# Altium schematic symbol library SchLib.SchLib: 13 symbols
Pins are listed as number, name and electrical type; pins without a type are passive.

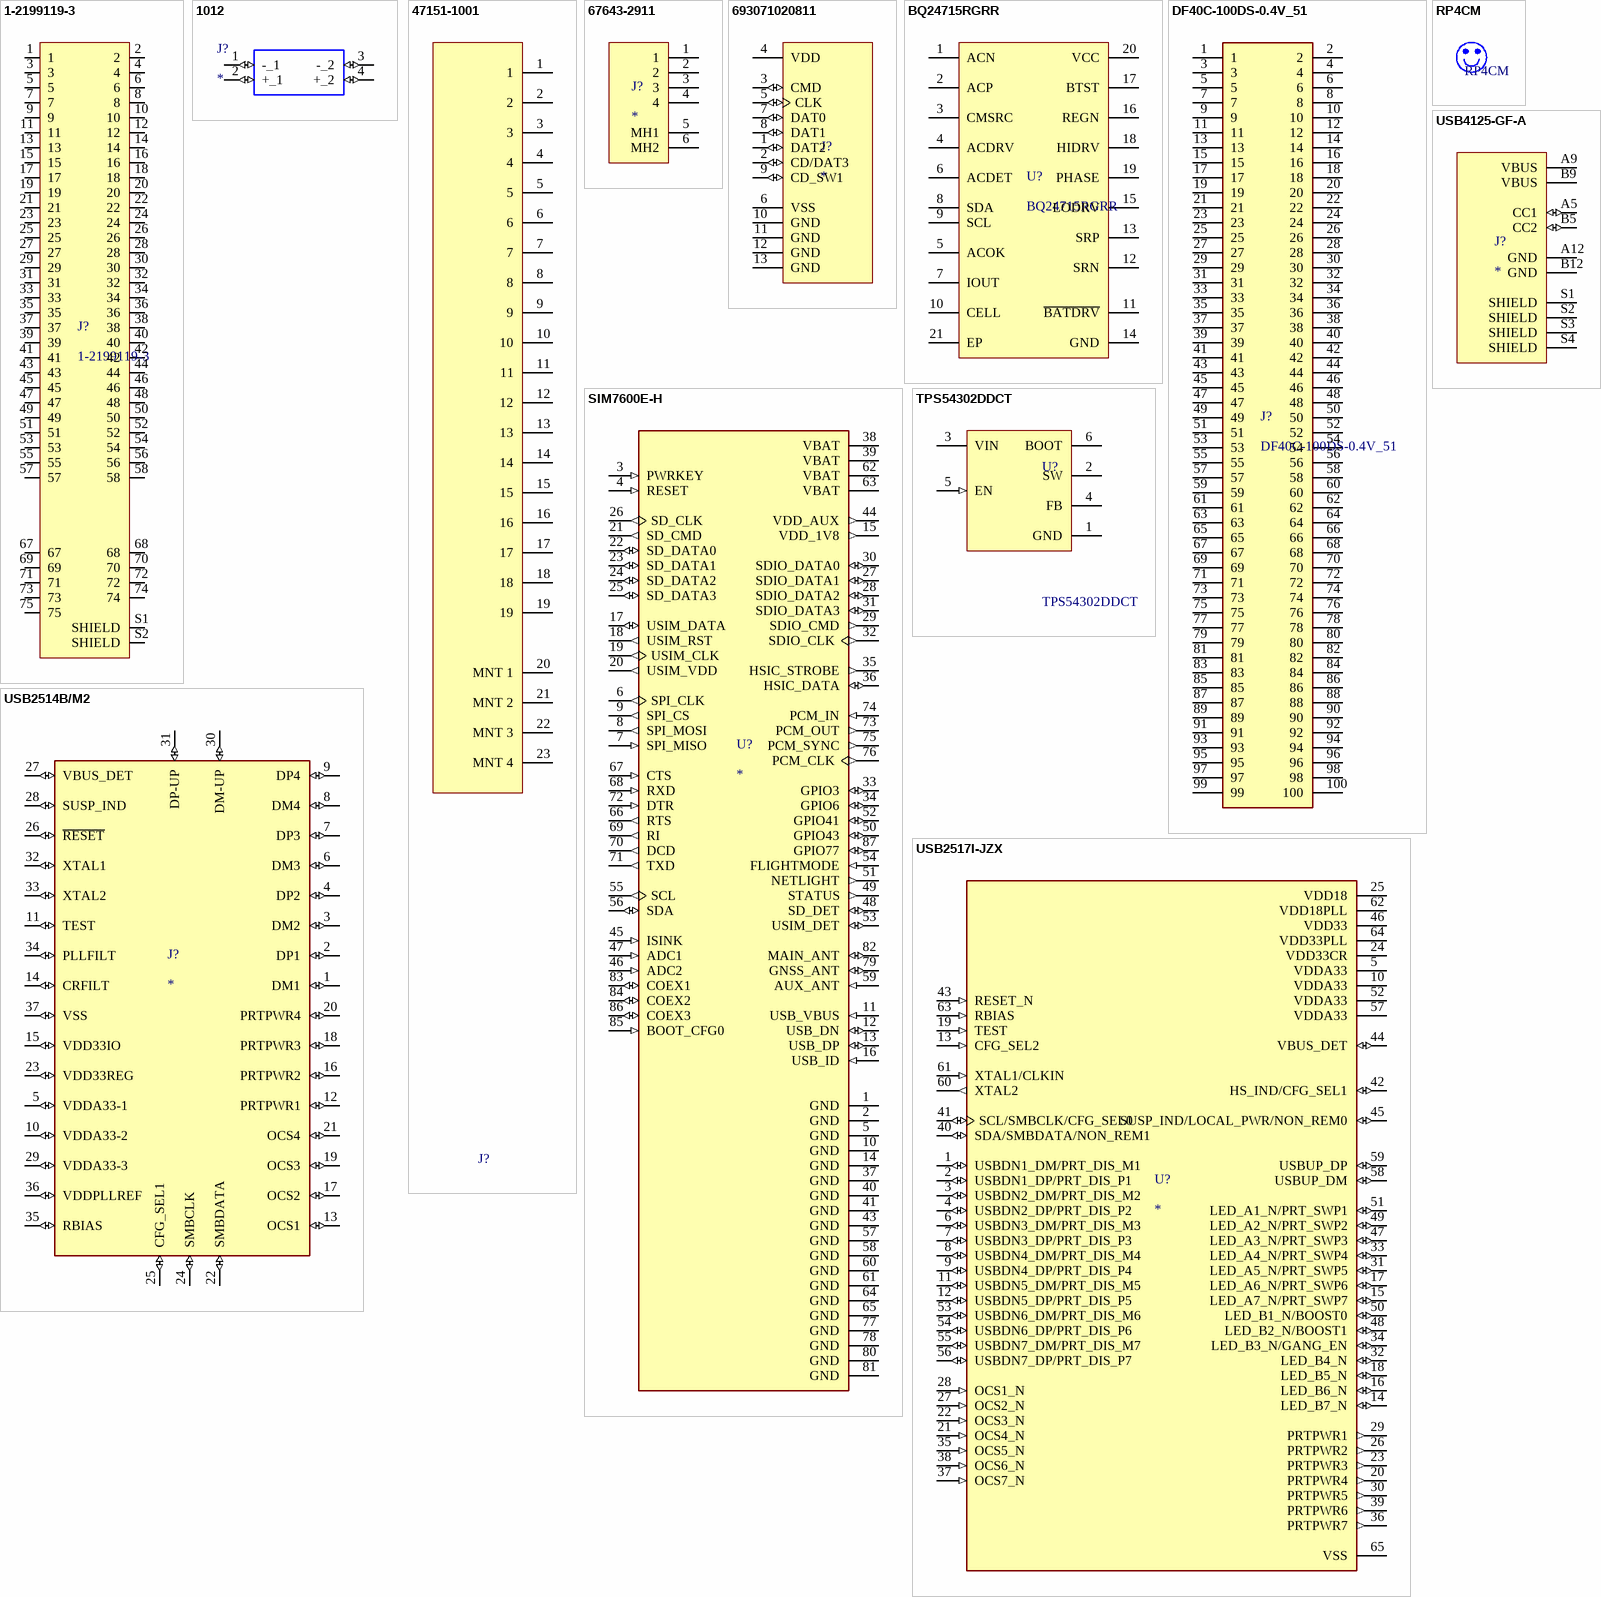
[diagram p0: symbols 1-2199119-3 to USB4125-GF-A]

## 1-2199119-3
designator J?
m.2 0.5pitch 3.2h Key m Goldflash; MF: {'manufacturer': u'TE Connectivity'}; Value: *; Price: None; MP: 1-2199119-3; Availability: Unavailable; Package: None
footprint 1-2199119-3
pins: 1, 2, 3, 4, 5, 6, 7, 8, 9, 10, 11, 12, 13, 14, 15, 16, 17, 18, 19, 20, 21, 22, 23, 24, 25, 26, 27, 28, 29, 30, 31, 32, 33, 34, 35, 36, 37, 38, 39, 40, 41, 42, 43, 44, 45, 46, 47, 48, 49, 50, 51, 52, 53, 54, 55, 56, 57, 58, 67, 68, 69, 70, 71, 72, 73, 74, 75, S1 SHIELD, S2 SHIELD

## 1012
designator J?
<b>Cylindrical Battery Contacts, Clips, Holders & Springs SM BATT HOLDER (2)AA</b><p> Source: <a href="https://www.mouser.com/datasheet/2/215/012-745413.pdf"> Datasheet </a>; MF: {'manufacturer': u'Adafruit Industries'}; MP: 1012; Price: None; Availability: Unavailable; Value: *; Package: None
footprint 1012
pins: 1 -_1 (io), 2 +_1 (io), 3 -_2 (io), 4 +_2 (io)

## 47151-1001
designator J?  (value not drawn)
footprint 47151-1001
pins: 1, 2, 3, 4, 5, 6, 7, 8, 9, 10, 11, 12, 13, 14, 15, 16, 17, 18, 19, 20 MNT 1, 21 MNT 2, 22 MNT 3, 23 MNT 4

## 67643-2911
designator J?
Connector; Manufacturer_Name: Molex; Manufacturer_Part_Number: 67643-2911; Datasheet Link: http://www.molex.com/pdm_docs/sd/676432911_sd.pdf; Mouser Part Number: 538-67643-2911; Mouser Price/Stock: https://www.mouser.co.uk/ProductDetail/Molex/67643-2911?qs=x6EjVpvqMVMv%252BeZ0QcyMmw%3D%3D
footprint 67643-2911
pins: 1, 2, 3, 4, 5 MH1, 6 MH2

## 693071020811
designator J?
9 (8 + 1) Position Card Connector Secure Digital - microSD Surface Mount, Right Angle Gold; MF: {'manufacturer': u'W\xfcrth Elektronik'}; MP: 693071020811; Availability: Unavailable; Package: None; Value: *; Price: None
footprint WURTH_693071020811
pins: 1 DAT2 (io), 2 CD/DAT3 (io), 3 CMD (io), 4 VDD (power), 5 CLK (io), 6 VSS (power), 7 DAT0 (io), 8 DAT1 (io), 9 CD_SW1 (io), 10 GND (power), 11 GND (power), 12 GND (power), 13 GND (power)

## BQ24715RGRR
designator U?
Integrated Circuit; Manufacturer_Name: Texas Instruments; Datasheet Link: http://www.ti.com/lit/gpn/bq24715; Height: 1mm; Manufacturer_Part_Number: BQ24715RGRR; Mouser Part Number: 595-BQ24715RGRR; Mouser Price/Stock: https://www.mouser.co.uk/ProductDetail/Texas-Instruments/BQ24715RGRR?qs=biyDIajrTn47XBzYmaZUww%3D%3D; Arrow Part Number: BQ24715RGRR; Arrow Price/Stock: https://www.arrow.com/en/products/bq24715rgrr/texas-instruments
footprint QFN50P350X350X100-21N-D
pins: 1 ACN, 2 ACP, 3 CMSRC, 4 ACDRV, 5 ACOK, 6 ACDET, 7 IOUT, 8 SDA, 9 SCL, 10 CELL, 11 ~{BATDRV}, 12 SRN, 13 SRP, 14 GND, 15 LODRV, 16 REGN, 17 BTST, 18 HIDRV, 19 PHASE, 20 VCC, 21 EP

## DF40C-100DS-0.4V_51
designator J?
Connector; Manufacturer_Name: Hirose; Manufacturer_Part_Number: DF40C-100DS-0.4V(51); Datasheet Link: https://www.hirose.com/product/en/download_file/key_name/DF40C-100DS-0.4V%2851%29/category/Drawing%20(2D)/doc_file_id/46856/?file_category_id=6&item_id=06844033451&is_series=; Height: 1.65mm; Mouser Part Number: 798-DF40C100DS0.4V51; Mouser Price/Stock: https://www.mouser.co.uk/ProductDetail/Hirose-Connector/DF40C-100DS-04V51?qs=eDUdFcBPps2MEwbnuPvZzQ%3D%3D; Arrow Part Number: DF40C-100DS-0.4V(51); Arrow Price/Stock: https://www.arrow.com/en/products/df40c-100ds-0.4v-51/hirose-electric
footprint DF40C100DS04V51
pins: 1, 2, 3, 4, 5, 6, 7, 8, 9, 10, 11, 12, 13, 14, 15, 16, 17, 18, 19, 20, 21, 22, 23, 24, 25, 26, 27, 28, 29, 30, 31, 32, 33, 34, 35, 36, 37, 38, 39, 40, 41, 42, 43, 44, 45, 46, 47, 48, 49, 50, 51, 52, 53, 54, 55, 56, 57, 58, 59, 60, 61, 62, 63, 64, 65, 66, 67, 68, 69, 70, 71, 72, 73, 74, 75, 76, 77, 78, 79, 80, 81, 82, 83, 84, 85, 86, 87, 88, 89, 90, 91, 92, 93, 94, 95, 96, 97, 98, 99, 100

## RP4CM
designator M?  (mechanical)
Raspberry Pi  Computed Module 4
footprint RP4CM0

## SIM7600E-H
designator U?
Multi-Band LTE-TDD/LTE-FDD/HSPA+ and GSM/GPRS/EDGE module; MF: {'manufacturer': u'Simcom'}; MP: SIM7600E-H; Availability: Unavailable; Package: None; Value: *; Price: None
footprint IC_SIM7600E-H
pins: 1 GND (power), 2 GND (power), 3 PWRKEY (in), 4 RESET (in), 5 GND (power), 6 SPI_CLK (out), 7 SPI_MISO (in), 8 SPI_MOSI (out), 9 SPI_CS (out), 10 GND (power), 11 USB_VBUS (in), 12 USB_DN (io), 13 USB_DP (io), 14 GND (power), 15 VDD_1V8 (out), 16 USB_ID (in), 17 USIM_DATA (io), 18 USIM_RST (out), 19 USIM_CLK (out), 20 USIM_VDD (out), 21 SD_CMD (out), 22 SD_DATA0 (io), 23 SD_DATA1 (io), 24 SD_DATA2 (io), 25 SD_DATA3 (io), 26 SD_CLK (out), 27 SDIO_DATA1 (io), 28 SDIO_DATA2 (io), 29 SDIO_CMD (out), 30 SDIO_DATA0 (io), 31 SDIO_DATA3 (io), 32 SDIO_CLK (out), 33 GPIO3 (io), 34 GPIO6 (io), 35 HSIC_STROBE (out), 36 HSIC_DATA (io), 37 GND (power), 38 VBAT (power), 39 VBAT (power), 40 GND (power), 41 GND (power), 43 GND (power), 44 VDD_AUX (out), 45 ISINK (in), 46 ADC2 (in), 47 ADC1 (in), 48 SD_DET (io), 49 STATUS (out), 50 GPIO43 (io), 51 NETLIGHT (out), 52 GPIO41 (io), 53 USIM_DET (io), 54 FLIGHTMODE (in), 55 SCL (out), 56 SDA (io), 57 GND (power), 58 GND (power), 59 AUX_ANT (in), 60 GND (power), 61 GND (power), 62 VBAT (power), 63 VBAT (power), 64 GND (power), 65 GND (power), 66 RTS (out), 67 CTS (in), 68 RXD (in), 69 RI (out), 70 DCD (out), 71 TXD (out), 72 DTR (in), 73 PCM_OUT (out), 74 PCM_IN (in), 75 PCM_SYNC (out), 76 PCM_CLK (out), 77 GND (power), 78 GND (power), 79 GNSS_ANT (io), 80 GND (power), 81 GND (power), 82 MAIN_ANT (io), 83 COEX1 (io), 84 COEX2 (io), 85 BOOT_CFG0 (in), 86 COEX3 (io), 87 GPIO77 (io)

## TPS54302DDCT
designator U?
IC REG BUCK ADJ 3A TSOT23-6; Manufacturer: Texas Instruments; Max Duty Cycle: 100%; Standoff Height: 0mm; Max Junction Temp: +125°C; Min Supply Voltage: 4.5V; Nominal Supply Current: 45uA; Output Voltage: 0.6-26V; Max Supply Voltage: 28V; Output Type: AdjustableProgrammable; Number Of Outputs: 1; Switching Frequency: 400kHz; Temperature Range High: +125°C; Switching Topology: Buck; Device Class L3: Voltage Regulators - Switching; Device Class L2: Power Management ICs; Lead Free: Yes; Height: 1.1mm; Package: DDC0006A; ComponentLink2Description: Datasheet; Device Class L1: Integrated Circuits (ICs); Manufacturer Part Number: TPS54302DDCT; Output Current: 3A; ComponentLink2URL: http://www.ti.com/lit/ds/symlink/tps54302.pdf; Automotive: No; Digikey Description: IC REG BUCK ADJ 3A TSOT23-6; Octopart: https://octopart.com/tps54302ddct-texas+instruments-74209026; RoHS: TRUE; Category: IC; Temperature Range Low: -40°C; Temperature: -40°C to +125°C
pins: 1 GND (power), 2 SW, 3 VIN (power), 4 FB, 5 EN (in), 6 BOOT

## USB2514B/M2
designator J?
MF: {'manufacturer': u'Microchip Technology'}; MP: USB2514B/M2; Availability: Unavailable; Package: None; Value: *; Price: None
footprint 36-SQFN-EXPOSED-PAD
pins: 1 DM1 (io), 2 DP1 (io), 3 DM2 (io), 4 DP2 (io), 5 VDDA33-1 (io), 6 DM3 (io), 7 DP3 (io), 8 DM4 (io), 9 DP4 (io), 10 VDDA33-2 (io), 11 TEST (io), 12 PRTPWR1 (io), 13 OCS1 (io), 14 CRFILT (io), 15 VDD33IO (io), 16 PRTPWR2 (io), 17 OCS2 (io), 18 PRTPWR3 (io), 19 OCS3 (io), 20 PRTPWR4 (io), 21 OCS4 (io), 22 SMBDATA (io), 23 VDD33REG (io), 24 SMBCLK (io), 25 CFG_SEL1 (io), 26 ~{RESET} (io), 27 VBUS_DET (io), 28 SUSP_IND (io), 29 VDDA33-3 (io), 30 DM-UP (io), 31 DP-UP (io), 32 XTAL1 (io), 33 XTAL2 (io), 34 PLLFILT (io), 35 RBIAS (io), 36 VDDPLLREF (io), 37 VSS (io)

## USB2517I-JZX
designator U?
High Speed High Speed Hub Controller USB 2.0 3.3V Tray 64-Pin QFN; MF: {'manufacturer': u'Microchip Technology'}; MP: USB2517I-JZX; Availability: Unavailable; Package: None; Value: *; Price: None
footprint QFN50P900X900X100-65N
pins: 1 USBDN1_DM/PRT_DIS_M1 (io), 2 USBDN1_DP/PRT_DIS_P1 (io), 3 USBDN2_DM/PRT_DIS_M2 (io), 4 USBDN2_DP/PRT_DIS_P2 (io), 5 VDDA33 (power), 6 USBDN3_DM/PRT_DIS_M3 (io), 7 USBDN3_DP/PRT_DIS_P3 (io), 8 USBDN4_DM/PRT_DIS_M4 (io), 9 USBDN4_DP/PRT_DIS_P4 (io), 10 VDDA33 (power), 11 USBDN5_DM/PRT_DIS_M5 (io), 12 USBDN5_DP/PRT_DIS_P5 (io), 13 CFG_SEL2 (in), 14 LED_B7_N (io), 15 LED_A7_N/PRT_SWP7 (io), 16 LED_B6_N (io), 17 LED_A6_N/PRT_SWP6 (io), 18 LED_B5_N (io), 19 TEST (in), 20 PRTPWR4 (out), 21 OCS4_N (in), 22 OCS3_N (in), 23 PRTPWR3 (out), 24 VDD33CR (power), 25 VDD18 (power), 26 PRTPWR2 (out), 27 OCS2_N (in), 28 OCS1_N (in), 29 PRTPWR1 (out), 30 PRTPWR5 (out), 31 LED_A5_N/PRT_SWP5 (io), 32 LED_B4_N (io), 33 LED_A4_N/PRT_SWP4 (io), 34 LED_B3_N/GANG_EN (io), 35 OCS5_N (in), 36 PRTPWR7 (out), 37 OCS7_N (in), 38 OCS6_N (in), 39 PRTPWR6 (out), 40 SDA/SMBDATA/NON_REM1 (io), 41 SCL/SMBCLK/CFG_SEL0 (io), 42 HS_IND/CFG_SEL1 (io), 43 RESET_N (in), 44 VBUS_DET (io), 45 SUSP_IND/LOCAL_PWR/NON_REM0 (io), 46 VDD33 (power), 47 LED_A3_N/PRT_SWP3 (io), 48 LED_B2_N/BOOST1 (io), 49 LED_A2_N/PRT_SWP2 (io), 50 LED_B1_N/BOOST0 (io), 51 LED_A1_N/PRT_SWP1 (io), 52 VDDA33 (power), 53 USBDN6_DM/PRT_DIS_M6 (io), 54 USBDN6_DP/PRT_DIS_P6 (io), 55 USBDN7_DM/PRT_DIS_M7 (io), 56 USBDN7_DP/PRT_DIS_P7 (io), 57 VDDA33 (power), 58 USBUP_DM (io), 59 USBUP_DP (io), 60 XTAL2 (out), 61 XTAL1/CLKIN (in), 62 VDD18PLL (power), 63 RBIAS (in), 64 VDD33PLL (power), 65 VSS (power)

## USB4125-GF-A
designator J?
MP: USB4125-GF-A_REVA2; MF: {'manufacturer': u'Global Connector Technology'}; Availability: Unavailable; Value: *; Package: None; Price: None
footprint GCT_USB4125-GF-A
pins: A5 CC1 (io), A9 VBUS (power), A12 GND (power), B5 CC2 (io), B9 VBUS (power), B12 GND (power), S1 SHIELD, S2 SHIELD, S3 SHIELD, S4 SHIELD